# Altium footprint library YEGEO_BT_Antena_0805.PcbLib: 1 footprints
Each footprint in its own frame and in the unit in brackets; x right, y up, seen from the top. Pads: shape width x height; smd on the part's side, far side on the other; paste and mask are expansions set on the pad; w line width, h text height; cw(c..) or ccw(c..) is an arc to the next point about the centre after c.
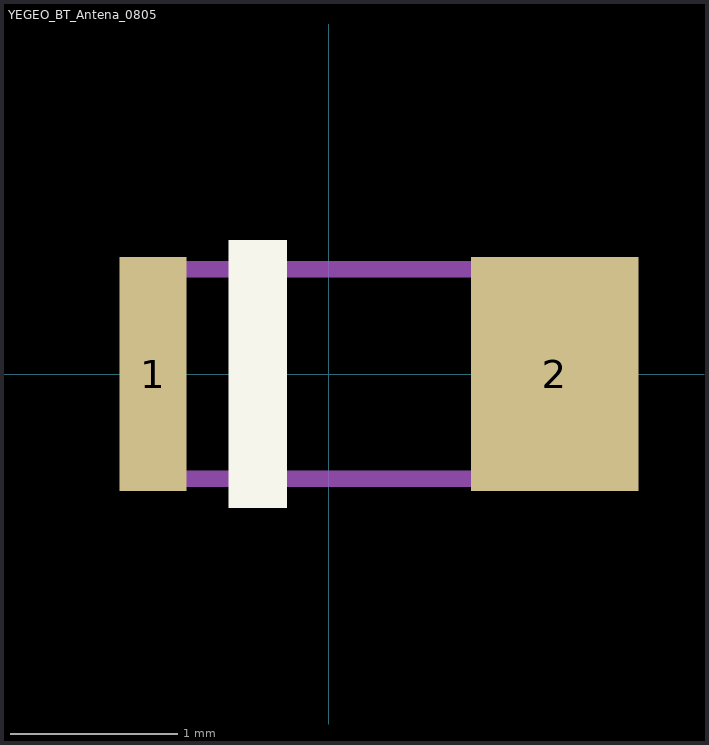
[diagram p0: the footprint, top view; thin cyan lines are the x and y axes]

## YEGEO_BT_Antena_0805 [mm]
height 1.1
pads (2):
  rect 0.4x1.4 smd: 1(-1.05,0)
  rect 1x1.4 smd: 2(1.35,0)
Top Overlay:
  rectangle: -0.6,-0.8 -0.25,0.8
Mechanical 1:
  lines w0.1: -1,-0.625 -1,0.625 1,0.625 1,-0.625 -1,-0.625
3D body: height 1.1, standoff 0.05, extent -1,-0.625 1,0.625